# Altium footprint library Resistors.PcbLib: 16 footprints
Each footprint in its own frame and in the unit in brackets; x right, y up, seen from the top. Pads: shape width x height; smd on the part's side, far side on the other; paste and mask are expansions set on the pad; w line width, h text height; cw(c..) or ccw(c..) is an arc to the next point about the centre after c.
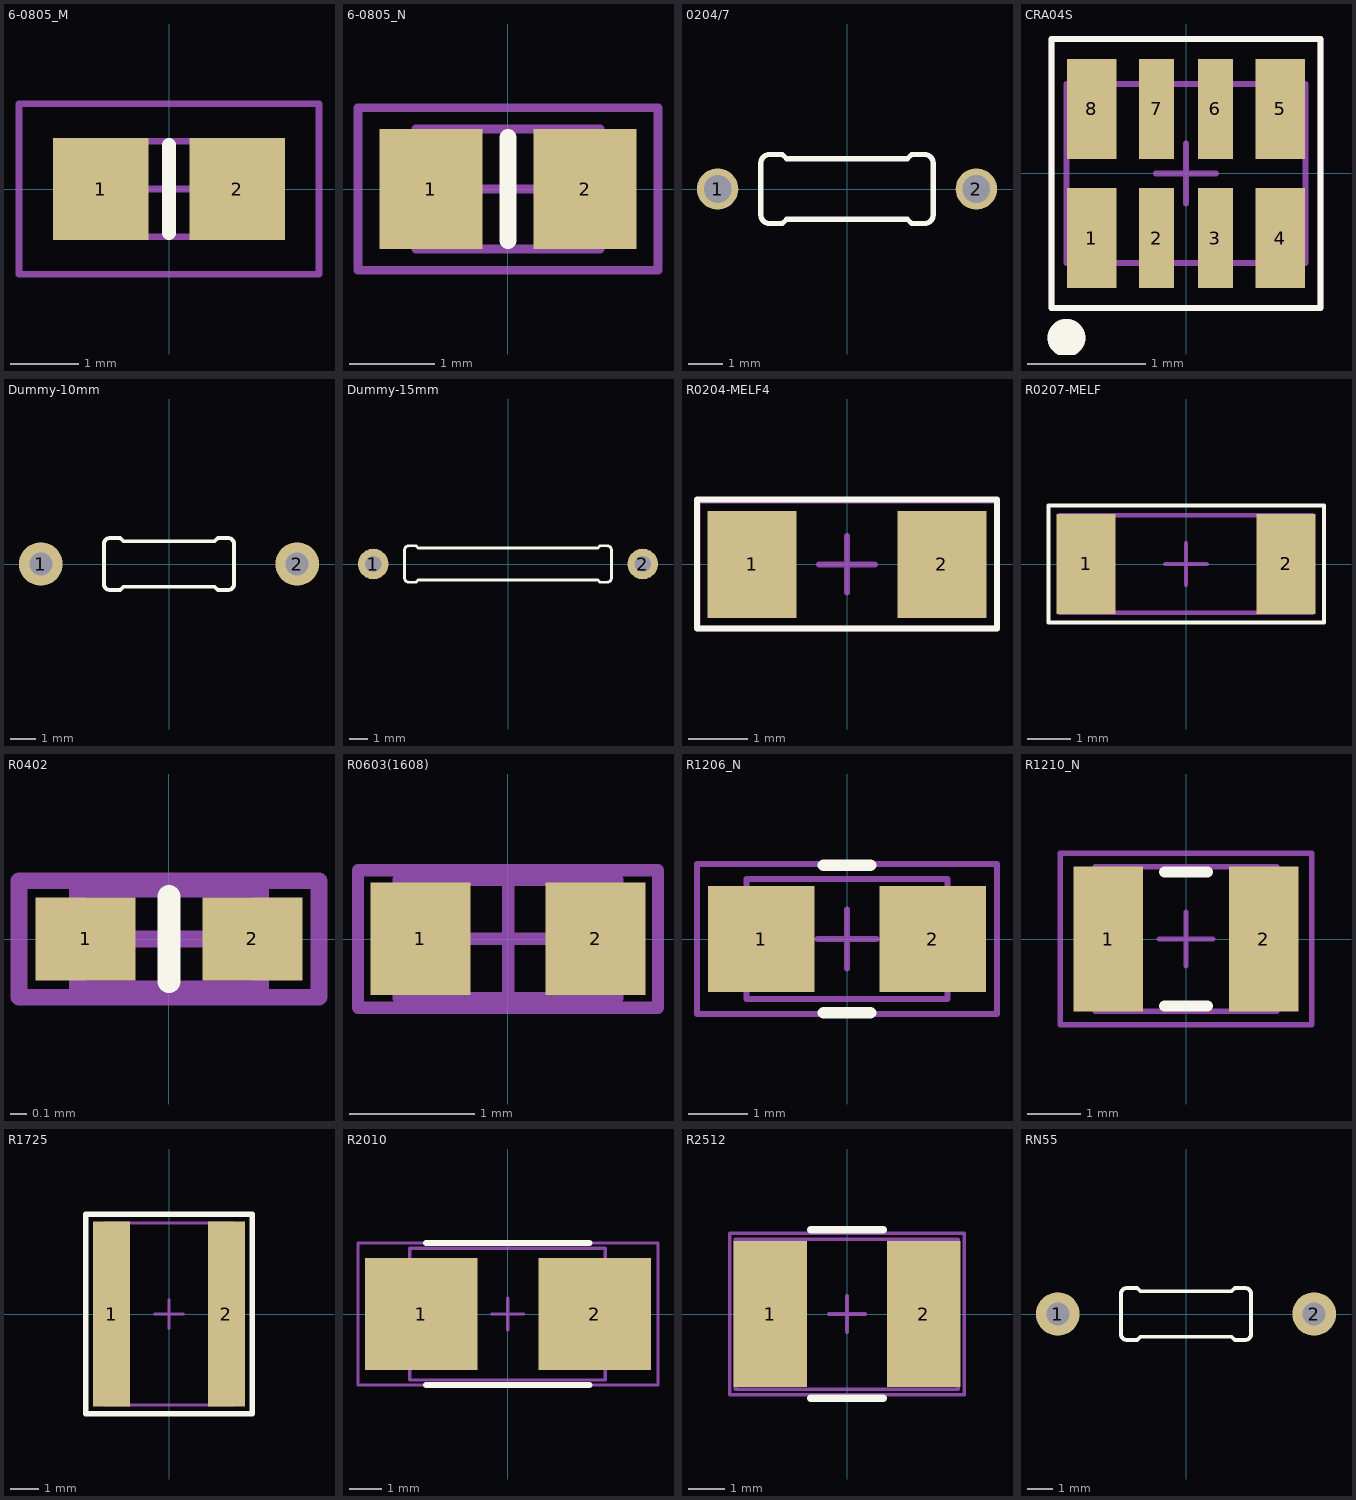
[diagram p0: the footprints below, top view; thin cyan lines are the x and y axes]

## 6-0805_M [mm] "Chip Resistor, Body 2.0x1.2mm, IPC Low Density"
height 0.7
pads (2):
  rect 1.4x1.5 smd: 1(-1,0) 2(1,0)
Top Overlay:
  lines w0.2: 0,-0.65 0,0.65
Mechanical 13:
  lines w0.1: -1.075,-0.7 1.075,-0.7 1.075,0.7 -1.075,0.7 -1.075,-0.7
Mechanical 15:
  lines w0.1: -0.5,0 0.5,0 ; 0,-0.5 0,0.5 ; -2.2,-1.25 2.2,-1.25 2.2,1.25 -2.2,1.25 -2.2,-1.25
3D body "R0805.STEP": height 0.5, standoff 0, extent -1,-0.6 1,0.6

## 6-0805_N [mm] "Chip Resistor, Body 2.0x1.2mm, IPC Medium Density"
height 0.7
pads (2):
  rect 1.2x1.4 smd: 1(-0.9,0) 2(0.9,0)
Top Overlay:
  lines w0.2: 0,-0.6 0,0.6
Mechanical 13:
  lines w0.1: -1.075,-0.7 1.075,-0.7 1.075,0.7 -1.075,0.7 -1.075,-0.7
Mechanical 15:
  lines w0.1: -0.5,0 0.5,0 ; 0,-0.5 0,0.5 ; -1.75,-0.95 1.75,-0.95 1.75,0.95 -1.75,0.95 -1.75,-0.95
3D body "R0805.STEP": height 0.5, standoff 0, extent -1,-0.6 1,0.6

## 0204/7 [mil] "0204/7"
pads (2):
  round 48 hole 32: 1(-150,0) 2(150,0)
Top Overlay:
  lines w6: -100,-30 ccw(c-90,-30) -90,-40 -75,-40 -70,-35 70,-35 75,-40 90,-40 ccw(c90,-30) 100,-30 100,30 ccw(c90,30) 90,40 75,40 70,35 -70,35 -75,40 -90,40 ccw(c-90,30) -100,30 -100,-30
3D body "R0204-THT.STEP": height 108.27, standoff -39.37, extent -151.05,-48.71 160.76,49.72

## CRA04S [mm] "R-NET"
height 0.8
pads (8):
  rect 0.42x0.85 smd: 1(-0.8,-0.55) 4(0.8,-0.55) 5(0.8,0.55) 8(-0.8,0.55)
  rect 0.3x0.85 smd: 2(-0.25,-0.55) 3(0.25,-0.55) 6(0.25,0.55) 7(-0.25,0.55)
Top Overlay:
  circle w0.3: c-1.016,-1.397 r0.01
  lines w0.05: -1.143,-1.143 -1.143,1.143 1.143,1.143 1.143,-1.143 -1.143,-1.143
Mechanical 1:
  lines w0.05: -1.016,-0.762 -1.016,0.762 1.016,0.762 1.016,-0.762 -1.016,-0.762
Mechanical 15:
  circle w0.3: c-1.016,-1.397 r0.01
  lines w0.05: -0.254,0 0.254,0 ; 0,-0.254 0,0.254 ; -1.143,-1.143 -1.143,1.143 1.143,1.143 1.143,-1.143 -1.143,-1.143
3D body: height 0.6, standoff 0, extent -1.016,-0.762 1.016,0.762

## Dummy-10mm [mm] "Dummy-10mm"
pads (2):
  round 1.7 hole 0.9: 1(-5,0) 2(5,0)
Top Overlay:
  lines w0.152: -2.54,-0.762 ccw(c-2.286,-0.762) -2.286,-1.016 -1.905,-1.016 -1.778,-0.889 1.778,-0.889 1.905,-1.016 2.286,-1.016 ccw(c2.286,-0.762) 2.54,-0.762 2.54,0.762 ccw(c2.286,0.762) 2.286,1.016 1.905,1.016 1.778,0.889 -1.778,0.889 -1.905,1.016 -2.286,1.016 ccw(c-2.286,0.762) -2.54,0.762 -2.54,-0.762
3D body "R0207-THT.STEP": height 2.85, standoff -0.9, extent -4.987,-1.245 5.013,1.255

## Dummy-15mm [mm] "Dummy-15mm"
pads (2):
  round 1.7 hole 0.9: 1(-7.5,0) 2(7.5,0)
Top Overlay:
  lines w0.152: -5.004,-0.889 -5.131,-1.016 -5.512,-1.016 cw(c-5.512,-0.762) -5.766,-0.762 -5.766,0.762 cw(c-5.512,0.762) -5.512,1.016 -5.131,1.016 -5.004,0.889 ; -5,-0.889 5,-0.889 ; -5,0.889 5,0.889 ; 5.004,-0.889 5.131,-1.016 5.512,-1.016 ccw(c5.512,-0.762) 5.766,-0.762 5.766,0.762 ccw(c5.512,0.762) 5.512,1.016 5.131,1.016 5.004,0.889
3D body "R0414-THT.step": height 4.4, standoff -0.4, extent -7.827,-2.092 7.573,2.108

## R0204-MELF4 [mm] "MELF Resistor, 0204"
height 0.6
pads (2):
  rect 1.5x1.8 smd: 1(-1.6,0) 2(1.6,0)
Top Overlay:
  lines w0.1: -2.527,-1.079 -2.527,1.092 2.527,1.092 2.527,-1.079 -2.527,-1.079
Mechanical 15:
  lines w0.1: -0.475,0 0.475,0 ; 0,-0.475 0,0.475 ; -2.515,-1.079 -2.515,1.079 2.527,1.079 2.527,-1.079 -2.515,-1.079
3D body: height 1.6, standoff 0.2, extent 1.451,-0.713 1.651,0.687
3D body: height 1.59, standoff 0.2, extent -1.342,-0.713 1.458,0.684
3D body: height 1.6, standoff 0.2, extent -1.537,-0.727 -1.337,0.673

## R0207-MELF [mm] "MELF Resistor, 0207"
height 0.6
pads (2):
  rect 1.35x2.3 smd: 1(-2.3,0) 2(2.3,0)
Top Overlay:
  lines w0.1: -3.162,-1.346 -3.162,1.346 3.175,1.346 3.175,-1.346 -3.162,-1.346
Mechanical 15:
  lines w0.1: -0.475,0 0.475,0 ; 0,-0.475 0,0.475 ; -2.908,-1.118 -2.908,1.118 2.908,1.118 2.908,-1.118 -2.908,-1.118
3D body: height 2.29, standoff 0.1, extent -2.899,-1.105 -1.749,1.091
3D body: height 2.29, standoff 0.1, extent 1.753,-1.103 2.903,1.092
3D body: height 2.29, standoff 0.1, extent -1.749,-1.105 1.751,1.091

## R0402 [mm] "Chip Resistor, Body 1.0x0.5mm"
height 0.55
pads (2):
  rect 0.6x0.5 smd: 1(-0.5,0) 2(0.5,0)
Top Overlay:
  lines w0.14: 0,-0.254 0,0.254
Mechanical 13:
  lines w0.1: -0.55,-0.3 0.55,-0.3 0.55,0.3 -0.55,0.3 -0.55,-0.3
Mechanical 15:
  lines w0.1: -0.3,0 0.3,0 ; 0,-0.3 0,0.3 ; -0.9,-0.35 0.9,-0.35 0.9,0.35 -0.9,0.35 -0.9,-0.35
3D body "R0402.STEP": height 0.4, standoff 0, extent -0.5,-0.237 0.5,0.263

## R0603(1608) [mm] "Chip Resistor, 0603"
height 0.6
pads (2):
  rect 0.8x0.9 smd: 1(-0.7,0) 2(0.7,0)
Mechanical 13:
  lines w0.1: -0.875,-0.475 -0.875,0.475 0.875,0.475 0.875,-0.475 -0.875,-0.475
Mechanical 15:
  lines w0.1: -0.475,0 0.475,0 ; 0,-0.475 0,0.475 ; -1.2,-0.55 -1.2,0.55 1.2,0.55 1.2,-0.55 -1.2,-0.55
3D body "R0603.stp": height 0.4, standoff 0, extent -0.8,-0.4 0.8,0.4

## R1206_N [mm] "Chip Resistor Body 3.2x2.5mm"
height 1.5
pads (2):
  rect 1.8x1.8 smd: 1(-1.45,0) 2(1.45,0)
Top Overlay:
  lines w0.2: -0.4,-1.25 0.4,-1.25 ; -0.4,1.25 0.4,1.25
Mechanical 13:
  lines w0.1: -1.7,-1.016 -1.7,1.016 1.7,1.016 1.7,-1.016 -1.7,-1.016
Mechanical 15:
  lines w0.1: -0.5,0 0.5,0 ; 0,-0.5 0,0.5 ; -2.54,-1.27 -2.54,1.27 2.54,1.27 2.54,-1.27 -2.54,-1.27
3D body "R1206.stp": height 0.6, standoff 0.05, extent -1.6,-0.765 1.6,0.765

## R1210_N [mm] "Chip Resistor Body 3.2x2.5mm"
height 1.5
pads (2):
  rect 1.3x2.7 smd: 1(-1.45,0) 2(1.45,0)
Top Overlay:
  lines w0.2: -0.4,-1.25 0.4,-1.25 ; -0.4,1.25 0.4,1.25
Mechanical 13:
  lines w0.1: -1.7,-1.35 1.7,-1.35 1.7,1.35 -1.7,1.35 -1.7,-1.35
Mechanical 15:
  lines w0.1: -0.5,0 0.5,0 ; 0,-0.5 0,0.5 ; -2.35,-1.6 2.35,-1.6 2.35,1.6 -2.35,1.6 -2.35,-1.6
3D body "R1210.stp": height 0.55, standoff 0, extent -1.6,-1.25 1.6,1.25

## R1725 [mm] "Chip Resistor Body 4.45x6.35mm"
height 1.65
pads (2):
  rect 1.3x6.45 smd: 1(-2,0) 2(2,0)
Top Overlay:
  lines w0.2: -2.9,-3.475 -2.9,3.475 -2.875,3.475 2.875,3.475 2.9,3.475 2.9,-3.475 -2.9,-3.475
Mechanical 13:
  lines w0.1: -2.248,-3.175 -2.248,3.175 2.261,3.175 2.261,-3.175 -2.248,-3.175
Mechanical 15:
  lines w0.1: -0.5,0 0.5,0 ; 0,-0.5 0,0.5 ; -2.896,-3.475 -2.896,3.475 2.883,3.475 2.883,-3.475 -2.896,-3.475
3D body: height 1.5, standoff 0, extent -2.25,-3.188 2.261,3.175

## R2010 [mm] "Chip Resistor Body 5.08x2.54mm"
height 1.5
pads (2):
  rect 3.5x3.5 smd: 1(-2.7,0) 2(2.7,0)
Top Overlay:
  lines w0.2: -2.54,-2.21 2.54,-2.21 ; -2.54,2.21 2.54,2.21
Mechanical 13:
  lines w0.1: -3.048,-2.057 -3.048,2.045 3.035,2.045 3.035,-2.057 -3.048,-2.057
Mechanical 15:
  lines w0.1: -0.5,0 0.5,0 ; 0,-0.5 0,0.5 ; -4.661,-2.21 -4.661,2.21 4.674,2.21 4.674,-2.21 -4.661,-2.21
3D body "R2010.stp": height 0.7, standoff 0, extent -2.546,-1.276 2.534,1.264

## R2512 [mm] "Chip Resistor Body 3.2x2.5mm"
height 1.5
pads (2):
  rect 2x4 smd: 1(-2.1,0) 2(2.1,0)
Top Overlay:
  lines w0.2: -1,-2.3 1,-2.3 ; -1,2.3 1,2.3
Mechanical 13:
  lines w0.1: -3.048,-2.057 -3.048,2.045 3.035,2.045 3.035,-2.057 -3.048,-2.057
Mechanical 15:
  lines w0.1: -0.5,0 0.5,0 ; 0,-0.5 0,0.5 ; -3.2,-2.21 -3.2,2.21 3.2,2.21 3.2,-2.21 -3.2,-2.21
3D body: height 1.5, standoff 0, extent -3.111,-2.057 3.099,2.045

## RN55 [mm] "Dummy-10mm"
pads (2):
  round 1.7 hole 0.9: 1(-5,0) 2(5,0)
Top Overlay:
  lines w0.152: -2.54,-0.762 ccw(c-2.286,-0.762) -2.286,-1.016 -1.905,-1.016 -1.778,-0.889 1.778,-0.889 1.905,-1.016 2.286,-1.016 ccw(c2.286,-0.762) 2.54,-0.762 2.54,0.762 ccw(c2.286,0.762) 2.286,1.016 1.905,1.016 1.778,0.889 -1.778,0.889 -1.905,1.016 -2.286,1.016 ccw(c-2.286,0.762) -2.54,0.762 -2.54,-0.762
3D body "RN55.STEP": height 2.74, standoff -0.9, extent -5,-1.145 5,1.145